# EAGLE library part LC4128ZE_XXUMN132 (library lattice_ispMACH4000ZE)
ispMACH 4128ZE ucBGA132 Lattice Semiconductor Corporation - ispMACH 4000ZE Ultra Low Power, Low Cost CPLD Family Generated using Lattice BSDL models: http://www.latticesemi.com/dynamic/index.cfm?fuseaction=view_documents&document_type=36&sloc=01-01-02-01&source=sidebar
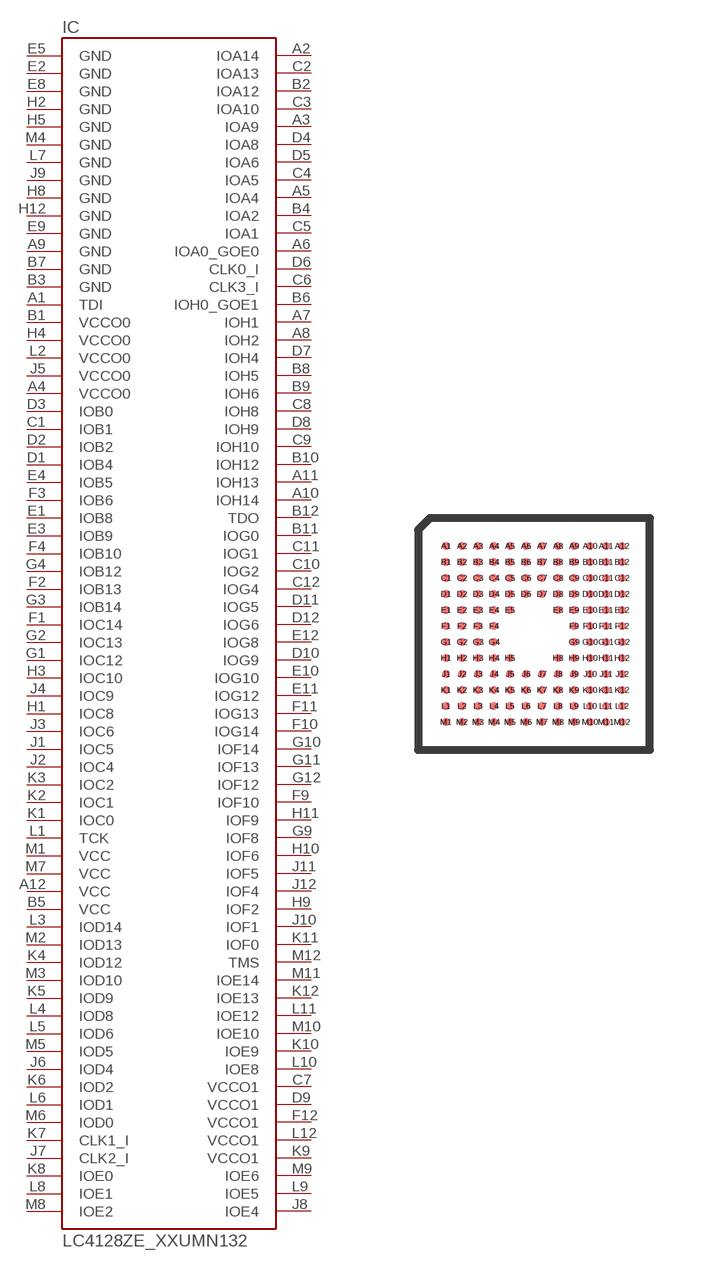
[diagram p13: symbol with the pads of UCBGA132; footprint UCBGA132]

Designator prefix IC

## LC4128ZE_XXUMN132  [UCBGA132]
A1  TDI  in
A2  IOA14
A3  IOA9
A4  VCCO0  pwr
A5  IOA4
A6  IOA0_GOE0
A7  IOH1
A8  IOH2
A9  GND  pwr
A10  IOH14
A11  IOH13
A12  VCC  pwr
B1  VCCO0  pwr
B2  IOA12
B3  GND  pwr
B4  IOA2
B5  VCC  pwr
B6  IOH0_GOE1
B7  GND  pwr
B8  IOH5
B9  IOH6
B10  IOH12
B11  IOG0
B12  TDO  out
C1  IOB1
C2  IOA13
C3  IOA10
C4  IOA5
C5  IOA1
C6  CLK3_I  in
C7  VCCO1  pwr
C8  IOH8
C9  IOH10
C10  IOG2
C11  IOG1
C12  IOG4
D1  IOB4
D2  IOB2
D3  IOB0
D4  IOA8
D5  IOA6
D6  CLK0_I  in
D7  IOH4
D8  IOH9
D9  VCCO1  pwr
D10  IOG9
D11  IOG5
D12  IOG6
E1  IOB8
E2  GND  pwr
E3  IOB9
E4  IOB5
E5  GND  pwr
E8  GND  pwr
E9  GND  pwr
E10  IOG10
E11  IOG12
E12  IOG8
F1  IOC14
F2  IOB13
F3  IOB6
F4  IOB10
F9  IOF10
F10  IOG14
F11  IOG13
F12  VCCO1  pwr
G1  IOC12
G2  IOC13
G3  IOB14
G4  IOB12
G9  IOF8
G10  IOF14
G11  IOF13
G12  IOF12
H1  IOC8
H2  GND  pwr
H3  IOC10
H4  VCCO0  pwr
H5  GND  pwr
H8  GND  pwr
H9  IOF2
H10  IOF6
H11  IOF9
H12  GND  pwr
J1  IOC5
J2  IOC4
J3  IOC6
J4  IOC9
J5  VCCO0  pwr
J6  IOD4
J7  CLK2_I  in
J8  IOE4
J9  GND  pwr
J10  IOF1
J11  IOF5
J12  IOF4
K1  IOC0
K2  IOC1
K3  IOC2
K4  IOD12
K5  IOD9
K6  IOD2
K7  CLK1_I  in
K8  IOE0
K9  VCCO1  pwr
K10  IOE9
K11  IOF0
K12  IOE13
L1  TCK  in
L2  VCCO0  pwr
L3  IOD14
L4  IOD8
L5  IOD6
L6  IOD1
L7  GND  pwr
L8  IOE1
L9  IOE5
L10  IOE8
L11  IOE12
L12  VCCO1  pwr
M1  VCC  pwr
M2  IOD13
M3  IOD10
M4  GND  pwr
M5  IOD5
M6  IOD0
M7  VCC  pwr
M8  IOE2
M9  IOE6
M10  IOE10
M11  IOE14
M12  TMS  in

## Footprint UCBGA132 (pad centres in mm)
ucBGA - 132 http://www.latticesemi.com/lit/docs/package/pkg.pdf
smd 0.2 x 0.2: A1 -2.2,2.2; A2 -1.8,2.2; A3 -1.4,2.2; A4 -1,2.2; A5 -0.6,2.2; A6 -0.2,2.2; A7 0.2,2.2; A8 0.6,2.2; A9 1,2.2; A10 1.4,2.2; A11 1.8,2.2; A12 2.2,2.2; B1 -2.2,1.8; B2 -1.8,1.8; B3 -1.4,1.8; B4 -1,1.8; B5 -0.6,1.8; B6 -0.2,1.8; B7 0.2,1.8; B8 0.6,1.8; B9 1,1.8; B10 1.4,1.8; B11 1.8,1.8; B12 2.2,1.8; C1 -2.2,1.4; C2 -1.8,1.4; C3 -1.4,1.4; C4 -1,1.4; C5 -0.6,1.4; C6 -0.2,1.4; C7 0.2,1.4; C8 0.6,1.4; C9 1,1.4; C10 1.4,1.4; C11 1.8,1.4; C12 2.2,1.4; D1 -2.2,1; D2 -1.8,1; D3 -1.4,1; D4 -1,1; D5 -0.6,1; D6 -0.2,1; D7 0.2,1; D8 0.6,1; D9 1,1; D10 1.4,1; D11 1.8,1; D12 2.2,1; E1 -2.2,0.6; E2 -1.8,0.6; E3 -1.4,0.6; E4 -1,0.6; E5 -0.6,0.6; E8 0.6,0.6; E9 1,0.6; E10 1.4,0.6; E11 1.8,0.6; E12 2.2,0.6; F1 -2.2,0.2; F2 -1.8,0.2; F3 -1.4,0.2; F4 -1,0.2; F9 1,0.2; F10 1.4,0.2; F11 1.8,0.2; F12 2.2,0.2; G1 -2.2,-0.2; G2 -1.8,-0.2; G3 -1.4,-0.2; G4 -1,-0.2; G9 1,-0.2; G10 1.4,-0.2; G11 1.8,-0.2; G12 2.2,-0.2; H1 -2.2,-0.6; H2 -1.8,-0.6; H3 -1.4,-0.6; H4 -1,-0.6; H5 -0.6,-0.6; H8 0.6,-0.6; H9 1,-0.6; H10 1.4,-0.6; H11 1.8,-0.6; H12 2.2,-0.6; J1 -2.2,-1; J2 -1.8,-1; J3 -1.4,-1; J4 -1,-1; J5 -0.6,-1; J6 -0.2,-1; J7 0.2,-1; J8 0.6,-1; J9 1,-1; J10 1.4,-1; J11 1.8,-1; J12 2.2,-1; K1 -2.2,-1.4; K2 -1.8,-1.4; K3 -1.4,-1.4; K4 -1,-1.4; K5 -0.6,-1.4; K6 -0.2,-1.4; K7 0.2,-1.4; K8 0.6,-1.4; K9 1,-1.4; K10 1.4,-1.4; K11 1.8,-1.4; K12 2.2,-1.4; L1 -2.2,-1.8; L2 -1.8,-1.8; L3 -1.4,-1.8; L4 -1,-1.8; L5 -0.6,-1.8; L6 -0.2,-1.8; L7 0.2,-1.8; L8 0.6,-1.8; L9 1,-1.8; L10 1.4,-1.8; L11 1.8,-1.8; L12 2.2,-1.8; M1 -2.2,-2.2; M2 -1.8,-2.2; M3 -1.4,-2.2; M4 -1,-2.2; M5 -0.6,-2.2; M6 -0.2,-2.2; M7 0.2,-2.2; M8 0.6,-2.2; M9 1,-2.2; M10 1.4,-2.2; M11 1.8,-2.2; M12 2.2,-2.2